# Altium footprint library Sonar.PcbLib: 7 footprints
Each footprint in its own frame and in the unit in brackets; x right, y up, seen from the top. Pads: shape width x height; smd on the part's side, far side on the other; paste and mask are expansions set on the pad; w line width, h text height; cw(c..) or ccw(c..) is an arc to the next point about the centre after c.
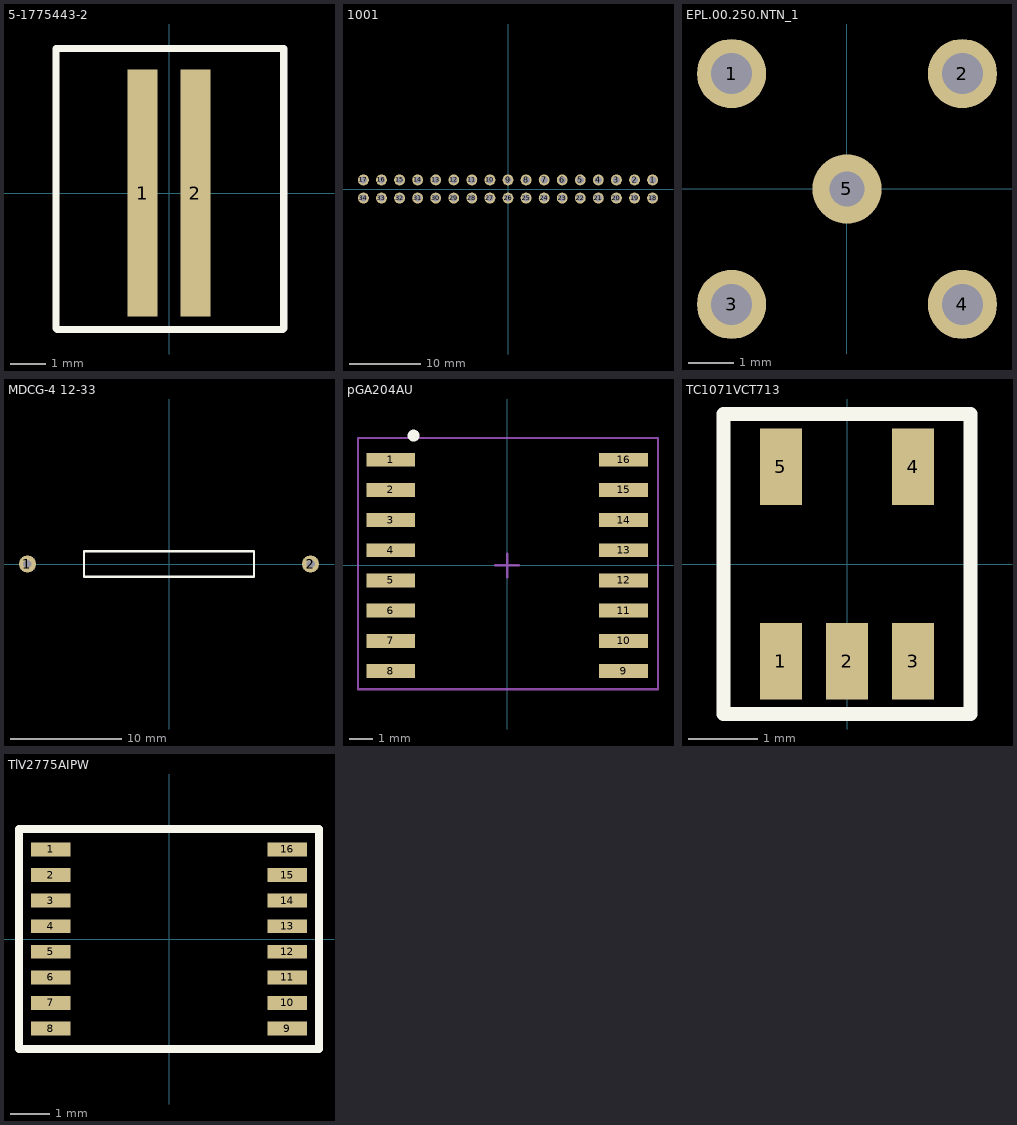
[diagram p0: the footprints below, top view; thin cyan lines are the x and y axes]

## 5-1775443-2 [mm] "CONN HEADER 1.5MM 2 POS Vert SMD"
pads (2):
  rect 0.85x7 smd: 1(-0.75,0) 2(0.75,0)
Top Overlay:
  lines w0.2: -3.2,4.089 -3.2,-3.835 -3.175,-3.861 3.226,-3.861 3.251,-3.835 3.251,4.089 -3.15,4.089
3D body: height 4.95, standoff -0.05, extent -2.25,-2.733 2.25,3.267

## 1001 [mil] "OUPIIN"
pads (34):
  round 60 hole 40.94: 1(800,50) 2(700,50) 3(600,50) 4(500,50) 5(400,50) 6(300,50) 7(200,50) 8(100,50) 9(0,50) 10(-100,50) 11(-200,50) 12(-300,50) 13(-400,50) 14(-500,50) 15(-600,50) 16(-700,50) 17(-800,50) 18(800,-50) 19(700,-50) 20(600,-50) 21(500,-50) 22(400,-50) 23(300,-50) 24(200,-50) 25(100,-50) 26(0,-50) 27(-100,-50) 28(-200,-50) 29(-300,-50) 30(-400,-50) 31(-500,-50) 32(-600,-50) 33(-700,-50) 34(-800,-50)

## EPL.00.250.NTN_1 [mil] "LEMO coax connector"
pads (5):
  round 60 hole 35.43: 1(-100,100) 2(100,100) 3(-100,-100) 4(100,-100)
  round 60 hole 30: 5(0,0)

## MDCG-4 12-33 [mil] "SWITCH REED SPST .5A 12-33 A/T"
pads (2):
  round 60 hole 30: 1(-500,0) 2(500,0)
Top Overlay:
  lines w7.87: -300,-45 300,-45 ; -300,-43 -300,45 300,45 300,-43

## pGA204AU [mm] "SOIC, 8-Leads, Body 5.0x4.0mm (max), Pitch 1.27mm, IPC Medium Density"
height 1.7
pads (16):
  rect 2.05x0.584 smd: 1(-4.9,4.445) 2(-4.9,3.175) 3(-4.9,1.905) 4(-4.9,0.635) 5(-4.9,-0.635) 6(-4.9,-1.905) 7(-4.9,-3.175) 8(-4.9,-4.445) 9(4.9,-4.445) 10(4.9,-3.175) 11(4.9,-1.905) 12(4.9,-0.635) 13(4.9,0.635) 14(4.9,1.905) 15(4.9,3.175) 16(4.9,4.445)
Top Overlay:
  circle w0.25: c-3.935,5.461 r0.125
Mechanical 15:
  lines w0.1: -0.5,0 0.5,0 ; 0,-0.5 0,0.5 ; -6.274,-5.207 6.35,-5.207 6.35,5.359 -6.274,5.359 -6.274,-5.207
3D body: height 3.5, standoff 0, extent -5.15,-5.1 5.15,5.1

## TC1071VCT713 [mm] "IC REG LDO ADJ .1A SOT23A-5"
pads (5):
  rect 0.6x1.1 smd: 1(-0.95,-1.4) 2(0,-1.4) 3(0.95,-1.4) 4(0.95,1.4) 5(-0.95,1.4)
Top Overlay:
  lines w0.2: -1.778,-2.159 -1.778,2.159 1.778,2.159 1.778,-2.159 -1.778,-2.159
3D body: height 1.44, standoff -0.02, extent -1.5,-1.475 1.5,1.525

## TlV2775AIPW [mm] "IC OPAMP GP R-R 5.1MHZ 16TSSOP"
pads (16):
  rect 1x0.35 smd: 1(-3,2.275) 2(-3,1.625) 3(-3,0.975) 4(-3,0.325) 5(-3,-0.325) 6(-3,-0.975) 7(-3,-1.625) 8(-3,-2.275) 9(3,-2.275) 10(3,-1.625) 11(3,-0.975) 12(3,-0.325) 13(3,0.325) 14(3,0.975) 15(3,1.625) 16(3,2.275)
Top Overlay:
  lines w0.2: -3.81,-2.794 3.81,-2.794 3.81,2.794 -3.81,2.794 -3.81,-2.794
3D body: height 1.1, standoff 0, extent -3.2,-2.5 3.2,2.5